# Altium schematic symbol library IDC.SchLib: 1 symbol
Pins are listed as number, name and electrical type; pins without a type are passive.

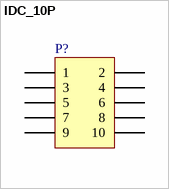
[diagram p0: symbol IDC_10P]

## IDC_10P
designator P?
Header, 5-Pin, Dual row; LatestRevisionDate: 17-Jul-2002; LatestRevisionNote: Re-released for DXP Platform.; Publisher: Altium Limited
footprint IDC_8P_1
pins: 1, 2, 3, 4, 5, 6, 7, 8, 9, 10